# Altium footprint library PcbLib1 (3).PcbLib: 17 footprints (part 1 of 2)
Each footprint in its own frame and in the unit in brackets; x right, y up, seen from the top. Pads: shape width x height; smd on the part's side, far side on the other; paste and mask are expansions set on the pad; w line width, h text height; cw(c..) or ccw(c..) is an arc to the next point about the centre after c.
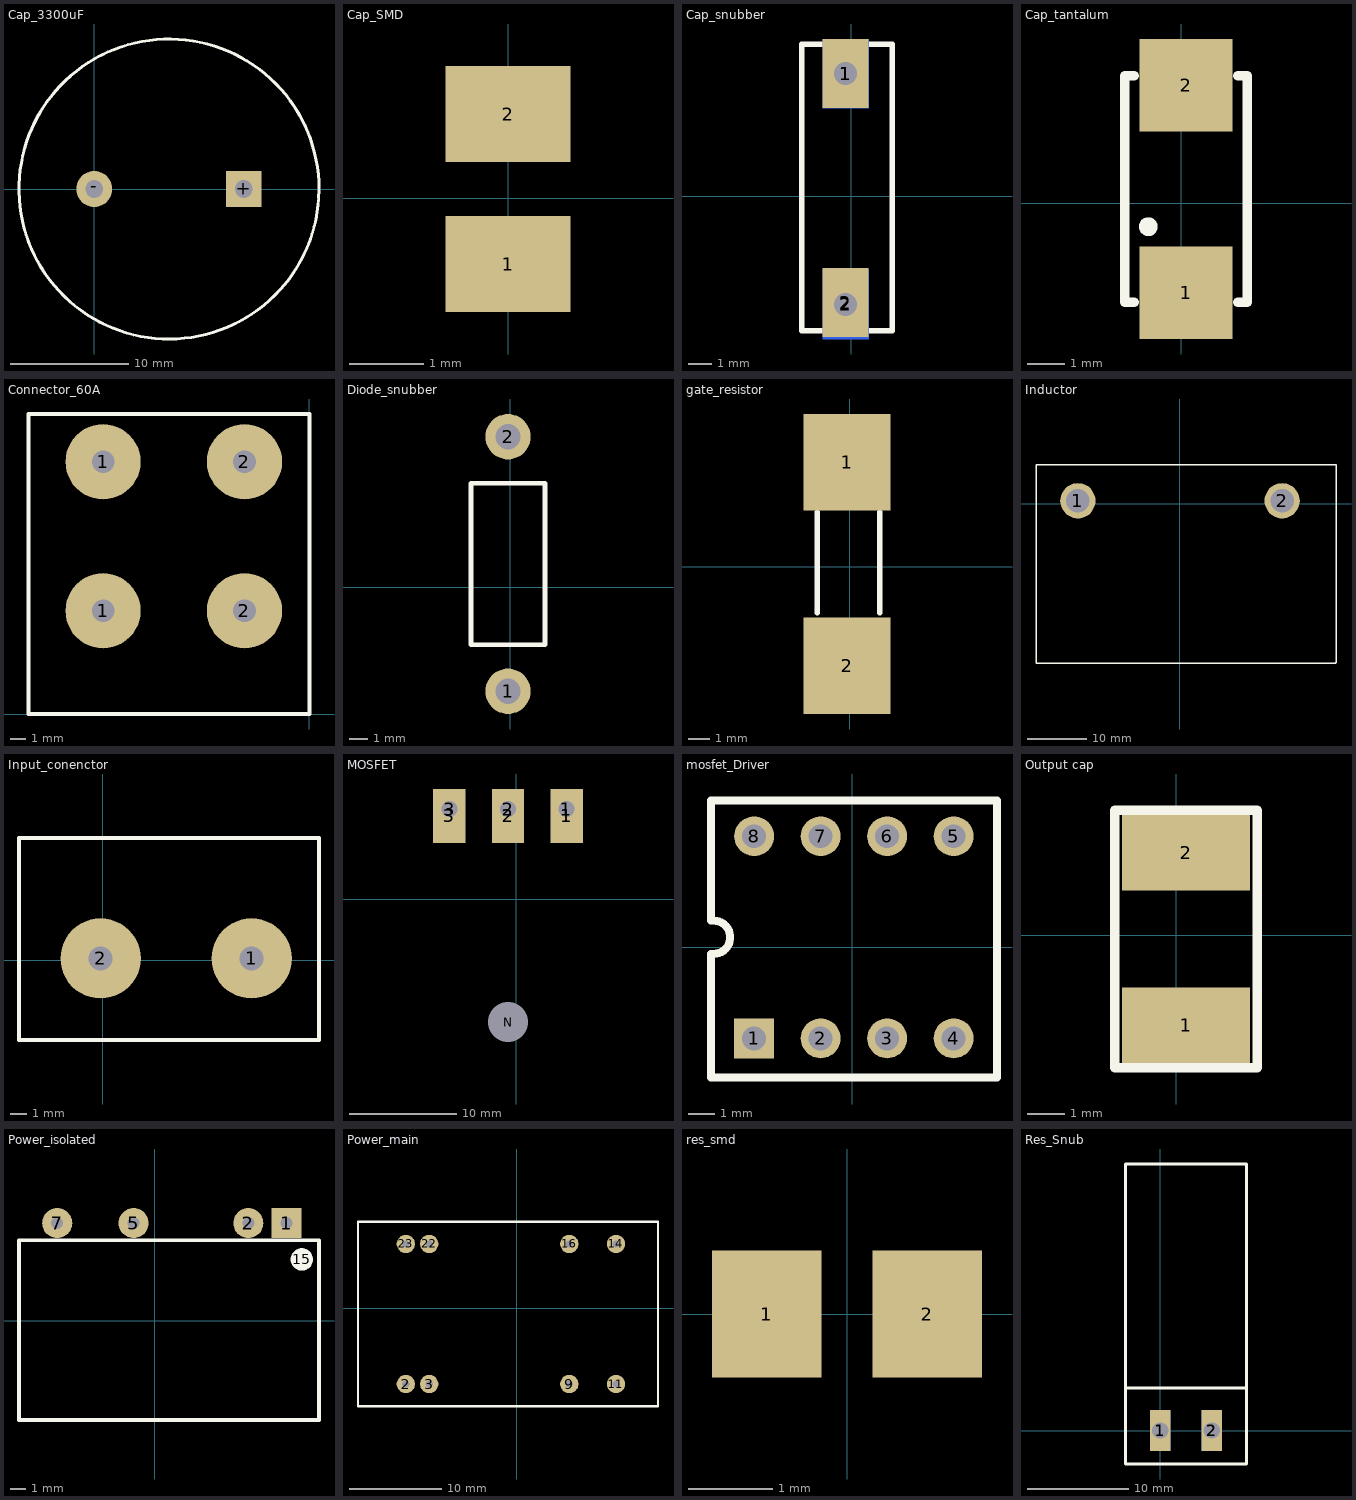
[diagram p0: the footprints below, top view; thin cyan lines are the x and y axes]

## Cap_3300uF [mil]
pads (2):
  rect 120x120 hole 60: +(500,0)
  round 120 hole 60: -(0,0)
Top Overlay:
  lines w10: 751.57,-4.97 cw(c250,0) 751.6,0

## Cap_SMD [mm]
pads (2):
  rect 1.7x1.3 smd: 1(0,-0.889) 2(0,1.143)
Bottom Overlay:
  lines w0.2: -1.143,-1.905 -1.143,2.159 1.143,2.159 1.143,-1.905 0,-1.905 -1.143,-1.905

## Cap_snubber [mm]
pads (6):
  rect 2x2 hole 1: 1(-0.254,5.334) 2(-0.254,-4.699)
  rect 2x3 smd: 1(-0.254,5.334) 2(-0.254,-4.619)
  rect 2x3 smd far side: 1(-0.254,5.334) 2(-0.254,-4.699)
Top Overlay:
  lines w0.254: -2.159,-5.842 1.778,-5.842 1.778,6.096 1.778,6.604 -2.159,6.604 -2.159,-5.842

## Cap_tantalum [mm]
pads (2):
  rect 2.5x2.5 smd: 1(0.127,-2.413) 2(0.127,3.175)
Top Overlay:
  circle w0.254: c-0.889,-0.635 r0.127
  lines w0.254: -1.27,-2.667 -1.524,-2.667 -1.524,3.429 -1.27,3.429 ; 1.524,-2.667 1.778,-2.667 1.778,3.429 1.524,3.429

## Connector_60A [mm]
pads (4):
  round 5 hole 1.5: 1(-13.716,6.858) 1(-13.716,16.764) 2(-4.318,6.858) 2(-4.318,16.764)
Top Overlay:
  lines w0.254: -18.669,0 0,0 0,19.939 -18.669,19.939 -18.669,0

## Diode_snubber [mm]
pads (2):
  round 2.5 hole 1.4: 1(-0.127,-5.73) 2(-0.127,8.27)
Top Overlay:
  lines w0.254: -2.159,-3.175 -2.159,-1.651 -2.159,5.715 1.905,5.715 1.905,-3.175 -2.159,-3.175

## gate_resistor [mm]
pads (2):
  rect 4.06x4.5 smd: 1(-0.127,4.877) 2(-0.127,-4.623)
Top Overlay:
  lines w0.254: -1.524,-2.159 -1.524,2.54 ; 1.397,-2.159 1.397,2.54

## Inductor [mm]
pads (2):
  round 6 hole 4: 1(-17.272,0.508) 2(17.399,0.508)
Top Overlay:
  lines w0.254: -24.384,5.334 -24.384,6.604 26.543,6.604 26.543,-26.924 26.416,-27.051 -24.384,-27.051 -24.384,5.715

## Input_conenctor [mm]
pads (2):
  round 5 hole 1.5: 1(9.271,0.127) 2(-0.127,0.127)
Top Overlay:
  lines w0.254: -5.207,-4.953 13.462,-4.953 13.462,7.62 -5.207,7.62 -5.207,-4.953

## MOSFET [mm]
pads (7):
  rect 2.5x2.5 hole 1.5: 1(4.678,8.382)
  rect 3x5 smd: 1(4.699,7.747) 2(-0.762,7.747) 3(-6.223,7.747)
  round 2.5 hole 1.5: 2(-0.762,8.382) 3(-6.202,8.382)
  round 1.5 / inner round 2.5 / far side round 2.5 hole 3.7: N(-0.762,-11.43)
Bottom Overlay:
  lines w0.254: -8.89,-17.653 -8.89,3.302 7.366,3.302 7.366,-17.653 -8.89,-17.653

## mosfet_Driver [mm]
pads (8):
  rect 1.5x1.5 hole 0.9: 1(-3.683,-3.429)
  round 1.5 hole 0.9: 2(-1.183,-3.429) 3(1.317,-3.429) 4(3.817,-3.429) 5(3.817,4.171) 6(1.317,4.171) 7(-1.183,4.171) 8(-3.683,4.171)
Top Overlay:
  lines w0.3: -5.314,-0.254 -5.314,-4.896 5.448,-4.896 5.448,5.511 -5.314,5.511 -5.314,0.996 ; -5.207,-0.254 ccw(c-5.207,0.371) -5.207,0.996

## Output cap [mm]
pads (2):
  rect 3.4x2 smd: 1(0.254,-2.402) 2(0.254,2.198)
Top Overlay:
  lines w0.254: -1.651,-3.531 1.524,-3.531 2.159,-3.531 2.159,3.327 -1.651,3.327 -1.651,-3.531

## Power_isolated [mm]
pads (5):
  rect 2x2 hole 0.8: 1(8.763,6.477)
  round 2 hole 0.8: 2(6.223,6.477) 5(-1.397,6.477) 7(-6.477,6.477)
  round 1.5 on Top Overlay: 15(9.779,4.064)
Top Overlay:
  lines w0.254: -9.017,-6.604 10.922,-6.604 10.922,5.334 -9.017,5.334 -9.017,-6.604

## Power_main [mm]
pads (8):
  round 2 hole 0.8: 2(-12.065,-8.255) 3(-9.525,-8.255) 9(5.715,-8.255) 11(10.795,-8.255) 14(10.795,6.985) 16(5.715,6.985) 22(-9.525,6.985) 23(-12.065,6.985)
Top Overlay:
  lines w0.254: -17.272,-10.668 15.367,-10.668 15.367,9.398 -17.272,9.398 -17.272,-10.668

## res_smd [mm]
pads (2):
  rect 1.3x1.5 smd: 1(-0.95,0) 2(0.95,0)
Bottom Overlay:
  lines w0.2: -1.778,0.865 -1.778,-0.889 1.778,-0.889 1.778,0.889 -1.778,0.889

## Res_Snub [mm]
pads (6):
  rect 2x2 hole 1.6: 1(0,0) 2(5.08,0)
  rect 2x4 smd: 1(0,0) 2(5.08,0)
  rect 2x4 smd far side: 1(0,0) 2(5.08,0)
Top Overlay:
  lines w0.254: -3.429,4.191 8.509,4.191 ; -3.429,-3.302 -3.429,26.289 8.509,26.289 8.509,-3.302 -3.429,-3.302